# Altium integrated library TI Power Management Linear Regulator Dual Channel LDO.IntLib: 299 symbols (part 1 of 15)
Pins are listed as number, name and electrical type; pins without a type are passive.

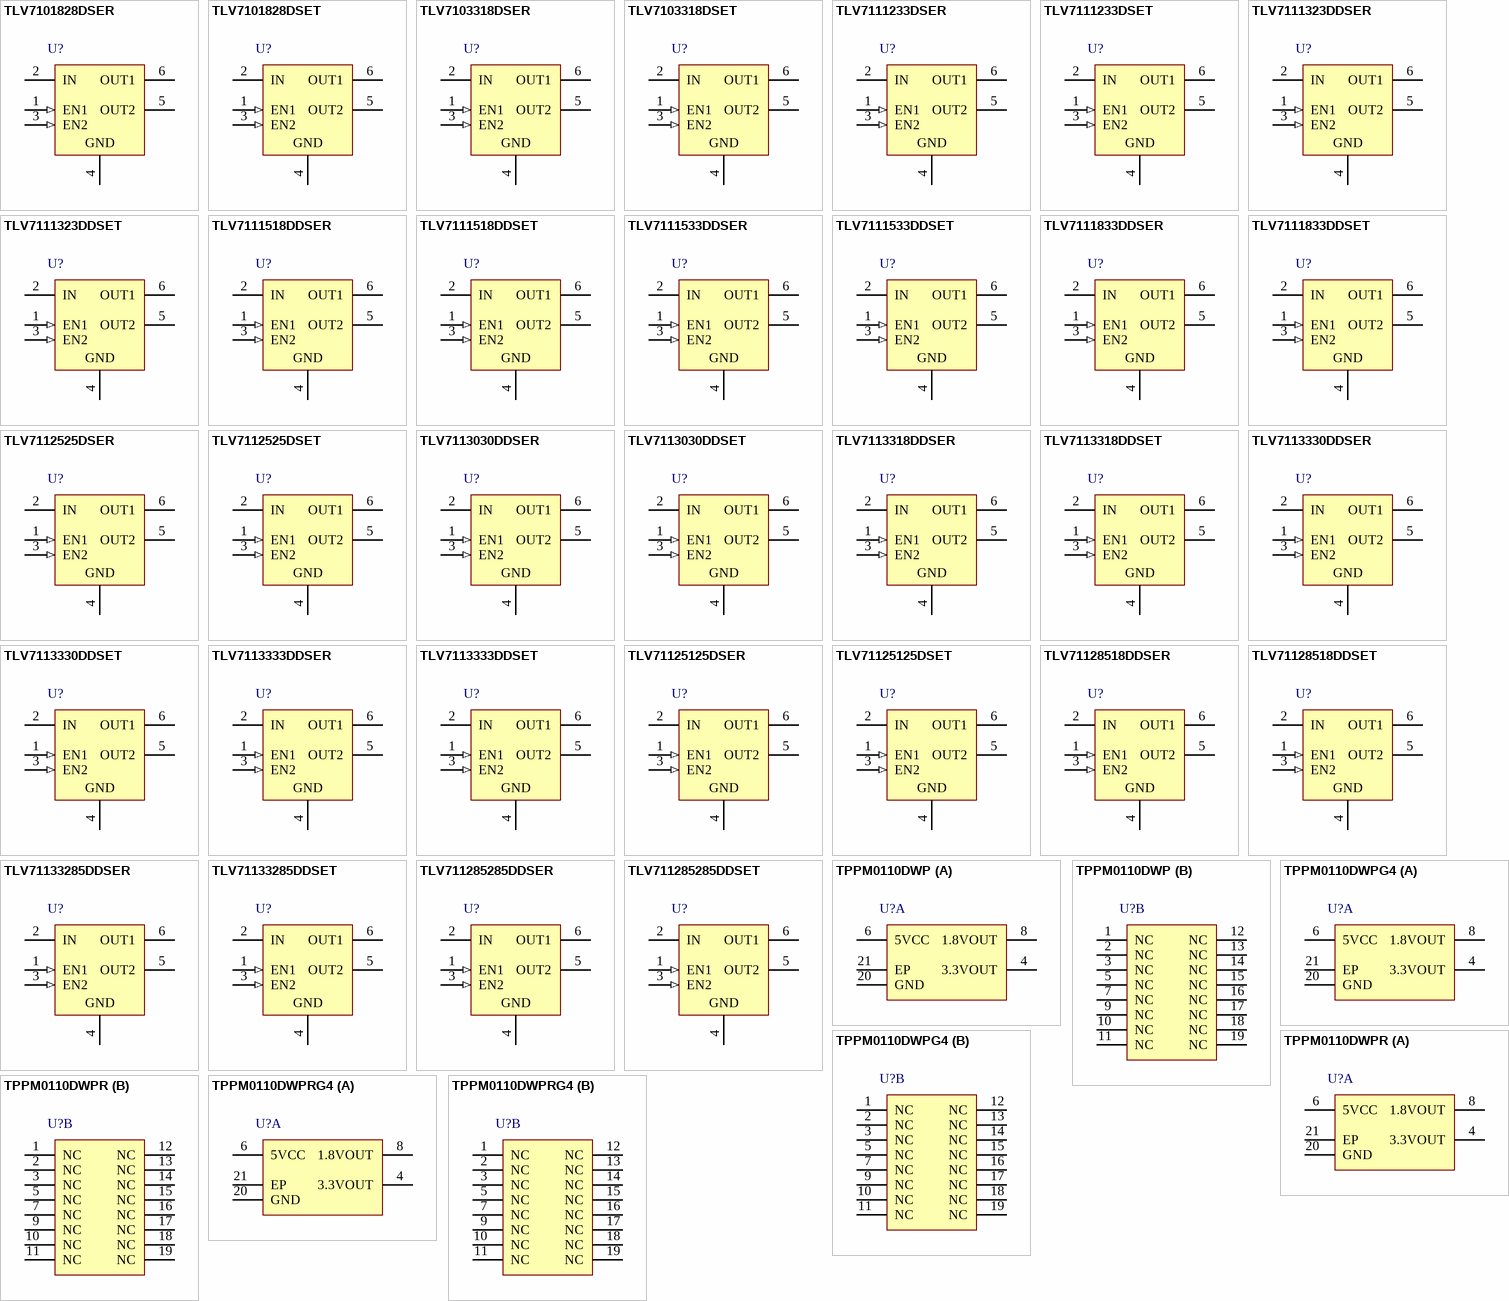
[diagram p0: symbols TLV7101828DSER to TPPM0110DWPRG4]

## TLV7101828DSER
designator U?
Dual Output High PSRR LDO, 200 mA, Fixed 1.8, 2.8 V Output, 2 to 5.5 V Input, 6-pin WSON (DSE), -40 to 125 degC, Green (RoHS & no Sb/Br); Manufacturer: Texas Instruments; PartNumber: TLV7101828DSER; Iout(Max)(A): 0.2; Iq(Typ)(mA): 0.03; SubFamily: Dual Channel LDO; Vdo(Typ)(mV): 175; Vin(Max)(V): 5.5; Vin(Min)(V): 2; Vout(Max)(V): 4.8; Vout(Min)(V): 0.7; DatasheetVersion: SBVS142A; PackageVersion: 4207810/A; PackageReference: DSE6; PackageDescription: 6-Pin Plastic Small Outline, Body 1.5 x 1.5 mm, Pitch 0.5 mm; Supplier 1: Digi-Key; Supplier Part Number 1: 296-27778-2-ND; Supplier 2: Digi-Key; Supplier Part Number 2: 296-27778-1-ND; Supplier 3: Digi-Key; Supplier Part Number 3: 296-27778-6-ND; Supplier 4: Newark; Supplier Part Number 4: 01T0734; Supplier 5: Mouser; Supplier Part Number 5: 595-TLV7101828DSER; Eco-Plan: Green (RoHS & no Sb/Br); Fixed Output Options(V): 1.8, 2.8; Mounting Technology: Surface Mount; ComponentLink1Description: Manufacturer URL; ComponentLink1URL: http://www.ti.com/; ComponentLink2Description: Datasheet; ComponentLink2URL: http://www.ti.com/general/docs/lit/getliterature.tsp?genericPartNumber=TLV7101828&fileType=pdf; ComponentLink3Description: Package Specification; ComponentLink3URL: http://www.ti.com/litv/pdf/mpds287
footprint TI-DSE6_V (SON, 6-Leads, Body 1.5x1.5mm, Pitch 0.5mm)
pins: 1 EN1 (in) "Enable pin for regulator 1.Driving EN1 over 0.9V turns on regulator 1. Driving EN below0.4V puts regulator 1 into shutdown mode.", 2 IN (power) "Input pin. A small capacitor is needed from this pin to ground to assure stability. See Input and Output Capacitor Requirements in the Application Information section for more details.", 3 EN2 (in) "Enable pin for regulator 2.Driving EN2 over 0.9V turns on regulator 2. Driving EN2 below 0.4V puts regulator 2 into shutdown mode.", 4 GND (power) "Ground pin", 5 OUT2 (power) "Regulated output voltage pin. A small 1mF ceramic capacitor is needed from this pin to ground to assure stability. See Input and Output Capacitor Requirements in the Application Information section for more details.", 6 OUT1 (power) "Regulated output voltage pin. A small 1mF ceramic capacitor is needed from this pin to ground to assure stability. See Input and Output Capacitor Requirements in the Application Information section for more details."

## TLV7101828DSET
designator U?
Dual Output High PSRR LDO, 200 mA, Fixed 1.8, 2.8 V Output, 2 to 5.5 V Input, 6-pin WSON (DSE), -40 to 125 degC, Green (RoHS & no Sb/Br); Manufacturer: Texas Instruments; PartNumber: TLV7101828DSET; Iout(Max)(A): 0.2; Iq(Typ)(mA): 0.03; SubFamily: Dual Channel LDO; Vdo(Typ)(mV): 175; Vin(Max)(V): 5.5; Vin(Min)(V): 2; Vout(Max)(V): 4.8; Vout(Min)(V): 0.7; DatasheetVersion: SBVS142A; PackageVersion: 4207810/A; PackageReference: DSE6; PackageDescription: 6-Pin Plastic Small Outline, Body 1.5 x 1.5 mm, Pitch 0.5 mm; Supplier 1: Digi-Key; Supplier Part Number 1: TLV7101828DSET-ND; Supplier 2: Newark; Supplier Part Number 2: 01T0735; Supplier 3: Mouser; Supplier Part Number 3: 595-TLV7101828DSET; Eco-Plan: Green (RoHS & no Sb/Br); Fixed Output Options(V): 1.8, 2.8; Mounting Technology: Surface Mount; ComponentLink1Description: Manufacturer URL; ComponentLink1URL: http://www.ti.com/; ComponentLink2Description: Datasheet; ComponentLink2URL: http://www.ti.com/general/docs/lit/getliterature.tsp?genericPartNumber=TLV7101828&fileType=pdf; ComponentLink3Description: Package Specification; ComponentLink3URL: http://www.ti.com/litv/pdf/mpds287
footprint TI-DSE6_V (SON, 6-Leads, Body 1.5x1.5mm, Pitch 0.5mm)
pins: 1 EN1 (in) "Enable pin for regulator 1.Driving EN1 over 0.9V turns on regulator 1. Driving EN below0.4V puts regulator 1 into shutdown mode.", 2 IN (power) "Input pin. A small capacitor is needed from this pin to ground to assure stability. See Input and Output Capacitor Requirements in the Application Information section for more details.", 3 EN2 (in) "Enable pin for regulator 2.Driving EN2 over 0.9V turns on regulator 2. Driving EN2 below 0.4V puts regulator 2 into shutdown mode.", 4 GND (power) "Ground pin", 5 OUT2 (power) "Regulated output voltage pin. A small 1mF ceramic capacitor is needed from this pin to ground to assure stability. See Input and Output Capacitor Requirements in the Application Information section for more details.", 6 OUT1 (power) "Regulated output voltage pin. A small 1mF ceramic capacitor is needed from this pin to ground to assure stability. See Input and Output Capacitor Requirements in the Application Information section for more details."

## TLV7103318DSER
designator U?
Dual Output High PSRR LDO, 200 mA, Fixed 3.3, 1.8 V Output, 2 to 5.5 V Input, 6-pin WSON (DSE), -40 to 125 degC, Green (RoHS & no Sb/Br); Manufacturer: Texas Instruments; PartNumber: TLV7103318DSER; Iout(Max)(A): 0.2; Iq(Typ)(mA): 0.03; SubFamily: Dual Channel LDO; Vdo(Typ)(mV): 175; Vin(Max)(V): 5.5; Vin(Min)(V): 2; Vout(Max)(V): 4.8; Vout(Min)(V): 0.7; DatasheetVersion: SBVS142A; PackageVersion: 4207810/A; PackageReference: DSE6; PackageDescription: 6-Pin Plastic Small Outline, Body 1.5 x 1.5 mm, Pitch 0.5 mm; Supplier 1: Digi-Key; Supplier Part Number 1: TLV7103318DSER-ND; Supplier 2: Mouser; Supplier Part Number 2: 595-TLV7103318DSER; Eco-Plan: Green (RoHS & no Sb/Br); Fixed Output Options(V): 3.3, 1.8; Mounting Technology: Surface Mount; ComponentLink1Description: Manufacturer URL; ComponentLink1URL: http://www.ti.com/; ComponentLink2Description: Datasheet; ComponentLink2URL: http://www.ti.com/general/docs/lit/getliterature.tsp?genericPartNumber=TLV7103318&fileType=pdf; ComponentLink3Description: Package Specification; ComponentLink3URL: http://www.ti.com/litv/pdf/mpds287
footprint TI-DSE6_V (SON, 6-Leads, Body 1.5x1.5mm, Pitch 0.5mm)
pins: 1 EN1 (in) "Enable pin for regulator 1.Driving EN1 over 0.9V turns on regulator 1. Driving EN below0.4V puts regulator 1 into shutdown mode.", 2 IN (power) "Input pin. A small capacitor is needed from this pin to ground to assure stability. See Input and Output Capacitor Requirements in the Application Information section for more details.", 3 EN2 (in) "Enable pin for regulator 2.Driving EN2 over 0.9V turns on regulator 2. Driving EN2 below 0.4V puts regulator 2 into shutdown mode.", 4 GND (power) "Ground pin", 5 OUT2 (power) "Regulated output voltage pin. A small 1mF ceramic capacitor is needed from this pin to ground to assure stability. See Input and Output Capacitor Requirements in the Application Information section for more details.", 6 OUT1 (power) "Regulated output voltage pin. A small 1mF ceramic capacitor is needed from this pin to ground to assure stability. See Input and Output Capacitor Requirements in the Application Information section for more details."

## TLV7103318DSET
designator U?
Dual Output High PSRR LDO, 200 mA, Fixed 3.3, 1.8 V Output, 2 to 5.5 V Input, 6-pin WSON (DSE), -40 to 125 degC, Green (RoHS & no Sb/Br); Manufacturer: Texas Instruments; PartNumber: TLV7103318DSET; Iout(Max)(A): 0.2; Iq(Typ)(mA): 0.03; SubFamily: Dual Channel LDO; Vdo(Typ)(mV): 175; Vin(Max)(V): 5.5; Vin(Min)(V): 2; Vout(Max)(V): 4.8; Vout(Min)(V): 0.7; DatasheetVersion: SBVS142A; PackageVersion: 4207810/A; PackageReference: DSE6; PackageDescription: 6-Pin Plastic Small Outline, Body 1.5 x 1.5 mm, Pitch 0.5 mm; Supplier 1: Digi-Key; Supplier Part Number 1: 296-29058-2-ND; Supplier 2: Digi-Key; Supplier Part Number 2: 296-29058-1-ND; Supplier 3: Digi-Key; Supplier Part Number 3: 296-29058-6-ND; Supplier 4: Mouser; Supplier Part Number 4: 595-TLV7103318DSET; Eco-Plan: Green (RoHS & no Sb/Br); Fixed Output Options(V): 3.3, 1.8; Mounting Technology: Surface Mount; ComponentLink1Description: Manufacturer URL; ComponentLink1URL: http://www.ti.com/; ComponentLink2Description: Datasheet; ComponentLink2URL: http://www.ti.com/general/docs/lit/getliterature.tsp?genericPartNumber=TLV7103318&fileType=pdf; ComponentLink3Description: Package Specification; ComponentLink3URL: http://www.ti.com/litv/pdf/mpds287
footprint TI-DSE6_V (SON, 6-Leads, Body 1.5x1.5mm, Pitch 0.5mm)
pins: 1 EN1 (in) "Enable pin for regulator 1.Driving EN1 over 0.9V turns on regulator 1. Driving EN below0.4V puts regulator 1 into shutdown mode.", 2 IN (power) "Input pin. A small capacitor is needed from this pin to ground to assure stability. See Input and Output Capacitor Requirements in the Application Information section for more details.", 3 EN2 (in) "Enable pin for regulator 2.Driving EN2 over 0.9V turns on regulator 2. Driving EN2 below 0.4V puts regulator 2 into shutdown mode.", 4 GND (power) "Ground pin", 5 OUT2 (power) "Regulated output voltage pin. A small 1mF ceramic capacitor is needed from this pin to ground to assure stability. See Input and Output Capacitor Requirements in the Application Information section for more details.", 6 OUT1 (power) "Regulated output voltage pin. A small 1mF ceramic capacitor is needed from this pin to ground to assure stability. See Input and Output Capacitor Requirements in the Application Information section for more details."

## TLV7111233DSER
designator U?
Dual Output High PSRR LDO, 200 mA, Fixed 1.2, 3.3 V Output, 2 to 5.5 V Input, 6-pin WSON (DSE), -40 to 125 degC, Green (RoHS & no Sb/Br); Manufacturer: Texas Instruments; PartNumber: TLV7111233DSER; Iout(Max)(A): 0.2; Iq(Typ)(mA): 0.03; SubFamily: Dual Channel LDO; Vdo(Typ)(mV): 175; Vin(Max)(V): 5.5; Vin(Min)(V): 2; DatasheetVersion: SBVS142A; PackageVersion: 4207810/A; PackageReference: DSE6; PackageDescription: 6-Pin Plastic Small Outline, Body 1.5 x 1.5 mm, Pitch 0.5 mm; Supplier 1: Digi-Key; Supplier Part Number 1: 296-28453-2-ND; Supplier 2: Digi-Key; Supplier Part Number 2: 296-28453-1-ND; Supplier 3: Digi-Key; Supplier Part Number 3: 296-28453-6-ND; Supplier 4: Mouser; Supplier Part Number 4: 595-TLV7111233DSER; Eco-Plan: Green (RoHS & no Sb/Br); Fixed Output Options(V): 1.2, 3.3; Mounting Technology: Surface Mount; ComponentLink1Description: Manufacturer URL; ComponentLink1URL: http://www.ti.com/; ComponentLink2Description: Datasheet; ComponentLink2URL: http://www.ti.com/general/docs/lit/getliterature.tsp?genericPartNumber=TLV7111233&fileType=pdf; ComponentLink3Description: Package Specification; ComponentLink3URL: http://www.ti.com/litv/pdf/mpds287
footprint TI-DSE6_V (SON, 6-Leads, Body 1.5x1.5mm, Pitch 0.5mm)
pins: 1 EN1 (in) "Enable pin for regulator 1.Driving EN1 over 0.9V turns on regulator 1. Driving EN below0.4V puts regulator 1 into shutdown mode.", 2 IN (power) "Input pin. A small capacitor is needed from this pin to ground to assure stability. See Input and Output Capacitor Requirements in the Application Information section for more details.", 3 EN2 (in) "Enable pin for regulator 2.Driving EN2 over 0.9V turns on regulator 2. Driving EN2 below 0.4V puts regulator 2 into shutdown mode.", 4 GND (power) "Ground pin", 5 OUT2 (power) "Regulated output voltage pin. A small 1mF ceramic capacitor is needed from this pin to ground to assure stability. See Input and Output Capacitor Requirements in the Application Information section for more details.", 6 OUT1 (power) "Regulated output voltage pin. A small 1mF ceramic capacitor is needed from this pin to ground to assure stability. See Input and Output Capacitor Requirements in the Application Information section for more details."

## TLV7111233DSET
designator U?
Dual Output High PSRR LDO, 200 mA, Fixed 1.2, 3.3 V Output, 2 to 5.5 V Input, 6-pin WSON (DSE), -40 to 125 degC, Green (RoHS & no Sb/Br); Manufacturer: Texas Instruments; PartNumber: TLV7111233DSET; Iout(Max)(A): 0.2; Iq(Typ)(mA): 0.03; SubFamily: Dual Channel LDO; Vdo(Typ)(mV): 175; Vin(Max)(V): 5.5; Vin(Min)(V): 2; DatasheetVersion: SBVS142A; PackageVersion: 4207810/A; PackageReference: DSE6; PackageDescription: 6-Pin Plastic Small Outline, Body 1.5 x 1.5 mm, Pitch 0.5 mm; Supplier 1: Digi-Key; Supplier Part Number 1: TLV7111233DSET-ND; Supplier 2: Mouser; Supplier Part Number 2: 595-TLV7111233DSET; Eco-Plan: Green (RoHS & no Sb/Br); Fixed Output Options(V): 1.2, 3.3; Mounting Technology: Surface Mount; ComponentLink1Description: Manufacturer URL; ComponentLink1URL: http://www.ti.com/; ComponentLink2Description: Datasheet; ComponentLink2URL: http://www.ti.com/general/docs/lit/getliterature.tsp?genericPartNumber=TLV7111233&fileType=pdf; ComponentLink3Description: Package Specification; ComponentLink3URL: http://www.ti.com/litv/pdf/mpds287
footprint TI-DSE6_V (SON, 6-Leads, Body 1.5x1.5mm, Pitch 0.5mm)
pins: 1 EN1 (in) "Enable pin for regulator 1.Driving EN1 over 0.9V turns on regulator 1. Driving EN below0.4V puts regulator 1 into shutdown mode.", 2 IN (power) "Input pin. A small capacitor is needed from this pin to ground to assure stability. See Input and Output Capacitor Requirements in the Application Information section for more details.", 3 EN2 (in) "Enable pin for regulator 2.Driving EN2 over 0.9V turns on regulator 2. Driving EN2 below 0.4V puts regulator 2 into shutdown mode.", 4 GND (power) "Ground pin", 5 OUT2 (power) "Regulated output voltage pin. A small 1mF ceramic capacitor is needed from this pin to ground to assure stability. See Input and Output Capacitor Requirements in the Application Information section for more details.", 6 OUT1 (power) "Regulated output voltage pin. A small 1mF ceramic capacitor is needed from this pin to ground to assure stability. See Input and Output Capacitor Requirements in the Application Information section for more details."

## TLV7111323DDSER
designator U?
Dual Output High PSRR LDO, 200 mA, Fixed 1.3, 2.3 V Output, 2 to 5.5 V Input, 6-pin WSON (DSE), -40 to 125 degC, Green (RoHS & no Sb/Br); Manufacturer: Texas Instruments; PartNumber: TLV7111323DDSER; Iout(Max)(A): 0.2; Iq(Typ)(mA): 0.03; SubFamily: Dual Channel LDO; Vdo(Typ)(mV): 150; Vin(Max)(V): 5.5; Vin(Min)(V): 2; DatasheetVersion: SBVS142A; PackageVersion: 4207810/A; PackageReference: DSE6; PackageDescription: 6-Pin Plastic Small Outline, Body 1.5 x 1.5 mm, Pitch 0.5 mm; Supplier 1: Digi-Key; Supplier Part Number 1: 296-30047-2-ND; Supplier 2: Digi-Key; Supplier Part Number 2: 296-30047-1-ND; Supplier 3: Digi-Key; Supplier Part Number 3: 296-30047-6-ND; Supplier 4: Mouser; Supplier Part Number 4: 595-TLV7111323DDSER; Eco-Plan: Green (RoHS & no Sb/Br); Fixed Output Options(V): 1.3, 2.3; Mounting Technology: Surface Mount; ComponentLink1Description: Manufacturer URL; ComponentLink1URL: http://www.ti.com/; ComponentLink2Description: Datasheet; ComponentLink2URL: http://www.ti.com/general/docs/lit/getliterature.tsp?genericPartNumber=TLV7111323D&fileType=pdf; ComponentLink3Description: Package Specification; ComponentLink3URL: http://www.ti.com/litv/pdf/mpds287
footprint TI-DSE6_V (SON, 6-Leads, Body 1.5x1.5mm, Pitch 0.5mm)
pins: 1 EN1 (in) "Enable pin for regulator 1.Driving EN1 over 0.9V turns on regulator 1. Driving EN below0.4V puts regulator 1 into shutdown mode.", 2 IN (power) "Input pin. A small capacitor is needed from this pin to ground to assure stability. See Input and Output Capacitor Requirements in the Application Information section for more details.", 3 EN2 (in) "Enable pin for regulator 2.Driving EN2 over 0.9V turns on regulator 2. Driving EN2 below 0.4V puts regulator 2 into shutdown mode.", 4 GND (power) "Ground pin", 5 OUT2 (power) "Regulated output voltage pin. A small 1mF ceramic capacitor is needed from this pin to ground to assure stability. See Input and Output Capacitor Requirements in the Application Information section for more details.", 6 OUT1 (power) "Regulated output voltage pin. A small 1mF ceramic capacitor is needed from this pin to ground to assure stability. See Input and Output Capacitor Requirements in the Application Information section for more details."

## TLV7111323DDSET
designator U?
Dual Output High PSRR LDO, 200 mA, Fixed 1.3, 2.3 V Output, 2 to 5.5 V Input, 6-pin WSON (DSE), -40 to 125 degC, Green (RoHS & no Sb/Br); Manufacturer: Texas Instruments; PartNumber: TLV7111323DDSET; Iout(Max)(A): 0.2; Iq(Typ)(mA): 0.03; SubFamily: Dual Channel LDO; Vdo(Typ)(mV): 150; Vin(Max)(V): 5.5; Vin(Min)(V): 2; DatasheetVersion: SBVS142A; PackageVersion: 4207810/A; PackageReference: DSE6; PackageDescription: 6-Pin Plastic Small Outline, Body 1.5 x 1.5 mm, Pitch 0.5 mm; Supplier 1: Digi-Key; Supplier Part Number 1: 296-30173-2-ND; Supplier 2: Digi-Key; Supplier Part Number 2: 296-30173-1-ND; Supplier 3: Digi-Key; Supplier Part Number 3: 296-30173-6-ND; Supplier 4: Farnell; Supplier Part Number 4: 2078540; Supplier 5: Mouser; Supplier Part Number 5: 595-TLV7111323DDSET; Eco-Plan: Green (RoHS & no Sb/Br); Fixed Output Options(V): 1.3, 2.3; Mounting Technology: Surface Mount; ComponentLink1Description: Manufacturer URL; ComponentLink1URL: http://www.ti.com/; ComponentLink2Description: Datasheet; ComponentLink2URL: http://www.ti.com/general/docs/lit/getliterature.tsp?genericPartNumber=TLV7111323D&fileType=pdf; ComponentLink3Description: Package Specification; ComponentLink3URL: http://www.ti.com/litv/pdf/mpds287
footprint TI-DSE6_V (SON, 6-Leads, Body 1.5x1.5mm, Pitch 0.5mm)
pins: 1 EN1 (in) "Enable pin for regulator 1.Driving EN1 over 0.9V turns on regulator 1. Driving EN below0.4V puts regulator 1 into shutdown mode.", 2 IN (power) "Input pin. A small capacitor is needed from this pin to ground to assure stability. See Input and Output Capacitor Requirements in the Application Information section for more details.", 3 EN2 (in) "Enable pin for regulator 2.Driving EN2 over 0.9V turns on regulator 2. Driving EN2 below 0.4V puts regulator 2 into shutdown mode.", 4 GND (power) "Ground pin", 5 OUT2 (power) "Regulated output voltage pin. A small 1mF ceramic capacitor is needed from this pin to ground to assure stability. See Input and Output Capacitor Requirements in the Application Information section for more details.", 6 OUT1 (power) "Regulated output voltage pin. A small 1mF ceramic capacitor is needed from this pin to ground to assure stability. See Input and Output Capacitor Requirements in the Application Information section for more details."

## TLV7111518DDSER
designator U?
Dual Output High PSRR LDO, 200 mA, Fixed 1.5, 1.8 V Output, 2 to 5.5 V Input, 6-pin WSON (DSE), -40 to 125 degC, Green (RoHS & no Sb/Br); Manufacturer: Texas Instruments; PartNumber: TLV7111518DDSER; Iout(Max)(A): 0.2; Iq(Typ)(mA): 0.03; SubFamily: Dual Channel LDO; Vdo(Typ)(mV): 150; Vin(Max)(V): 5.5; Vin(Min)(V): 2; DatasheetVersion: SBVS142A; PackageVersion: 4207810/A; PackageReference: DSE6; PackageDescription: 6-Pin Plastic Small Outline, Body 1.5 x 1.5 mm, Pitch 0.5 mm; Supplier 1: Digi-Key; Supplier Part Number 1: 296-29500-2-ND; Supplier 2: Digi-Key; Supplier Part Number 2: 296-29500-1-ND; Supplier 3: Digi-Key; Supplier Part Number 3: 296-29500-6-ND; Supplier 4: Mouser; Supplier Part Number 4: 595-TLV7111518DDSER; Eco-Plan: Green (RoHS & no Sb/Br); Fixed Output Options(V): 1.5, 1.8; Mounting Technology: Surface Mount; ComponentLink1Description: Manufacturer URL; ComponentLink1URL: http://www.ti.com/; ComponentLink2Description: Datasheet; ComponentLink2URL: http://www.ti.com/general/docs/lit/getliterature.tsp?genericPartNumber=TLV7111518D&fileType=pdf; ComponentLink3Description: Package Specification; ComponentLink3URL: http://www.ti.com/litv/pdf/mpds287
footprint TI-DSE6_V (SON, 6-Leads, Body 1.5x1.5mm, Pitch 0.5mm)
pins: 1 EN1 (in) "Enable pin for regulator 1.Driving EN1 over 0.9V turns on regulator 1. Driving EN below0.4V puts regulator 1 into shutdown mode.", 2 IN (power) "Input pin. A small capacitor is needed from this pin to ground to assure stability. See Input and Output Capacitor Requirements in the Application Information section for more details.", 3 EN2 (in) "Enable pin for regulator 2.Driving EN2 over 0.9V turns on regulator 2. Driving EN2 below 0.4V puts regulator 2 into shutdown mode.", 4 GND (power) "Ground pin", 5 OUT2 (power) "Regulated output voltage pin. A small 1mF ceramic capacitor is needed from this pin to ground to assure stability. See Input and Output Capacitor Requirements in the Application Information section for more details.", 6 OUT1 (power) "Regulated output voltage pin. A small 1mF ceramic capacitor is needed from this pin to ground to assure stability. See Input and Output Capacitor Requirements in the Application Information section for more details."

## TLV7111518DDSET
designator U?
Dual Output High PSRR LDO, 200 mA, Fixed 1.5, 1.8 V Output, 2 to 5.5 V Input, 6-pin WSON (DSE), -40 to 125 degC, Green (RoHS & no Sb/Br); Manufacturer: Texas Instruments; PartNumber: TLV7111518DDSET; Iout(Max)(A): 0.2; Iq(Typ)(mA): 0.03; SubFamily: Dual Channel LDO; Vdo(Typ)(mV): 150; Vin(Max)(V): 5.5; Vin(Min)(V): 2; DatasheetVersion: SBVS142A; PackageVersion: 4207810/A; PackageReference: DSE6; PackageDescription: 6-Pin Plastic Small Outline, Body 1.5 x 1.5 mm, Pitch 0.5 mm; Supplier 1: Digi-Key; Supplier Part Number 1: 296-29755-2-ND; Supplier 2: Digi-Key; Supplier Part Number 2: 296-29755-1-ND; Supplier 3: Digi-Key; Supplier Part Number 3: 296-29755-6-ND; Supplier 4: Farnell; Supplier Part Number 4: 2064245RL; Supplier 5: Farnell; Supplier Part Number 5: 2064245; Supplier 6: Newark; Supplier Part Number 6: 64T4166; Supplier 7: Mouser; Supplier Part Number 7: 595-TLV7111518DDSET; Eco-Plan: Green (RoHS & no Sb/Br); Fixed Output Options(V): 1.5, 1.8; Mounting Technology: Surface Mount; ComponentLink1Description: Manufacturer URL; ComponentLink1URL: http://www.ti.com/; ComponentLink2Description: Datasheet; ComponentLink2URL: http://www.ti.com/general/docs/lit/getliterature.tsp?genericPartNumber=TLV7111518D&fileType=pdf; ComponentLink3Description: Package Specification; ComponentLink3URL: http://www.ti.com/litv/pdf/mpds287
footprint TI-DSE6_V (SON, 6-Leads, Body 1.5x1.5mm, Pitch 0.5mm)
pins: 1 EN1 (in) "Enable pin for regulator 1.Driving EN1 over 0.9V turns on regulator 1. Driving EN below0.4V puts regulator 1 into shutdown mode.", 2 IN (power) "Input pin. A small capacitor is needed from this pin to ground to assure stability. See Input and Output Capacitor Requirements in the Application Information section for more details.", 3 EN2 (in) "Enable pin for regulator 2.Driving EN2 over 0.9V turns on regulator 2. Driving EN2 below 0.4V puts regulator 2 into shutdown mode.", 4 GND (power) "Ground pin", 5 OUT2 (power) "Regulated output voltage pin. A small 1mF ceramic capacitor is needed from this pin to ground to assure stability. See Input and Output Capacitor Requirements in the Application Information section for more details.", 6 OUT1 (power) "Regulated output voltage pin. A small 1mF ceramic capacitor is needed from this pin to ground to assure stability. See Input and Output Capacitor Requirements in the Application Information section for more details."

## TLV7111533DDSER
designator U?
Dual Output High PSRR LDO, 200 mA, Fixed 1.5, 3.3 V Output, 2 to 5.5 V Input, 6-pin WSON (DSE), -40 to 125 degC, Green (RoHS & no Sb/Br); Manufacturer: Texas Instruments; PartNumber: TLV7111533DDSER; Iout(Max)(A): 0.2; Iq(Typ)(mA): 0.03; SubFamily: Dual Channel LDO; Vdo(Typ)(mV): 150; Vin(Max)(V): 5.5; Vin(Min)(V): 2; DatasheetVersion: SBVS142A; PackageVersion: 4207810/A; PackageReference: DSE6; PackageDescription: 6-Pin Plastic Small Outline, Body 1.5 x 1.5 mm, Pitch 0.5 mm; Supplier 1: Digi-Key; Supplier Part Number 1: TLV7111533DDSER-ND; Supplier 2: Newark; Supplier Part Number 2: 92T2333; Supplier 3: Mouser; Supplier Part Number 3: 595-TLV7111533DDSER; Eco-Plan: Green (RoHS & no Sb/Br); Fixed Output Options(V): 1.5, 3.3; Mounting Technology: Surface Mount; ComponentLink1Description: Manufacturer URL; ComponentLink1URL: http://www.ti.com/; ComponentLink2Description: Datasheet; ComponentLink2URL: http://www.ti.com/general/docs/lit/getliterature.tsp?genericPartNumber=TLV7111533D&fileType=pdf; ComponentLink3Description: Package Specification; ComponentLink3URL: http://www.ti.com/litv/pdf/mpds287
footprint TI-DSE6_V (SON, 6-Leads, Body 1.5x1.5mm, Pitch 0.5mm)
pins: 1 EN1 (in) "Enable pin for regulator 1.Driving EN1 over 0.9V turns on regulator 1. Driving EN below0.4V puts regulator 1 into shutdown mode.", 2 IN (power) "Input pin. A small capacitor is needed from this pin to ground to assure stability. See Input and Output Capacitor Requirements in the Application Information section for more details.", 3 EN2 (in) "Enable pin for regulator 2.Driving EN2 over 0.9V turns on regulator 2. Driving EN2 below 0.4V puts regulator 2 into shutdown mode.", 4 GND (power) "Ground pin", 5 OUT2 (power) "Regulated output voltage pin. A small 1mF ceramic capacitor is needed from this pin to ground to assure stability. See Input and Output Capacitor Requirements in the Application Information section for more details.", 6 OUT1 (power) "Regulated output voltage pin. A small 1mF ceramic capacitor is needed from this pin to ground to assure stability. See Input and Output Capacitor Requirements in the Application Information section for more details."

## TLV7111533DDSET
designator U?
Dual Output High PSRR LDO, 200 mA, Fixed 1.5, 3.3 V Output, 2 to 5.5 V Input, 6-pin WSON (DSE), -40 to 125 degC, Green (RoHS & no Sb/Br); Manufacturer: Texas Instruments; PartNumber: TLV7111533DDSET; Iout(Max)(A): 0.2; Iq(Typ)(mA): 0.03; SubFamily: Dual Channel LDO; Vdo(Typ)(mV): 150; Vin(Max)(V): 5.5; Vin(Min)(V): 2; DatasheetVersion: SBVS142A; PackageVersion: 4207810/A; PackageReference: DSE6; PackageDescription: 6-Pin Plastic Small Outline, Body 1.5 x 1.5 mm, Pitch 0.5 mm; Supplier 1: Digi-Key; Supplier Part Number 1: 296-30351-2-ND; Supplier 2: Digi-Key; Supplier Part Number 2: 296-30351-1-ND; Supplier 3: Digi-Key; Supplier Part Number 3: 296-30351-6-ND; Supplier 4: Farnell; Supplier Part Number 4: 2099912; Supplier 5: Newark; Supplier Part Number 5: 05W5836; Supplier 6: Newark; Supplier Part Number 6: 92T2334; Supplier 7: Mouser; Supplier Part Number 7: 595-TLV7111533DDSET; Eco-Plan: Green (RoHS & no Sb/Br); Fixed Output Options(V): 1.5, 3.3; Mounting Technology: Surface Mount; ComponentLink1Description: Manufacturer URL; ComponentLink1URL: http://www.ti.com/; ComponentLink2Description: Datasheet; ComponentLink2URL: http://www.ti.com/general/docs/lit/getliterature.tsp?genericPartNumber=TLV7111533D&fileType=pdf; ComponentLink3Description: Package Specification; ComponentLink3URL: http://www.ti.com/litv/pdf/mpds287
footprint TI-DSE6_V (SON, 6-Leads, Body 1.5x1.5mm, Pitch 0.5mm)
pins: 1 EN1 (in) "Enable pin for regulator 1.Driving EN1 over 0.9V turns on regulator 1. Driving EN below0.4V puts regulator 1 into shutdown mode.", 2 IN (power) "Input pin. A small capacitor is needed from this pin to ground to assure stability. See Input and Output Capacitor Requirements in the Application Information section for more details.", 3 EN2 (in) "Enable pin for regulator 2.Driving EN2 over 0.9V turns on regulator 2. Driving EN2 below 0.4V puts regulator 2 into shutdown mode.", 4 GND (power) "Ground pin", 5 OUT2 (power) "Regulated output voltage pin. A small 1mF ceramic capacitor is needed from this pin to ground to assure stability. See Input and Output Capacitor Requirements in the Application Information section for more details.", 6 OUT1 (power) "Regulated output voltage pin. A small 1mF ceramic capacitor is needed from this pin to ground to assure stability. See Input and Output Capacitor Requirements in the Application Information section for more details."

## TLV7111833DDSER
designator U?
Dual Output High PSRR LDO, 200 mA, Fixed 1.8, 3.3 V Output, 2 to 5.5 V Input, 6-pin WSON (DSE), -40 to 125 degC, Green (RoHS & no Sb/Br); Manufacturer: Texas Instruments; PartNumber: TLV7111833DDSER; Iout(Max)(A): 0.2; Iq(Typ)(mA): 0.03; SubFamily: Dual Channel LDO; Vdo(Typ)(mV): 150; Vin(Max)(V): 5.5; Vin(Min)(V): 2; DatasheetVersion: SBVS142A; PackageVersion: 4207810/A; PackageReference: DSE6; PackageDescription: 6-Pin Plastic Small Outline, Body 1.5 x 1.5 mm, Pitch 0.5 mm; Supplier 1: Digi-Key; Supplier Part Number 1: 296-29501-2-ND; Supplier 2: Digi-Key; Supplier Part Number 2: 296-29501-1-ND; Supplier 3: Digi-Key; Supplier Part Number 3: 296-29501-6-ND; Supplier 4: Mouser; Supplier Part Number 4: 595-TLV7111833DDSER; Eco-Plan: Green (RoHS & no Sb/Br); Fixed Output Options(V): 1.8, 3.3; Mounting Technology: Surface Mount; ComponentLink1Description: Manufacturer URL; ComponentLink1URL: http://www.ti.com/; ComponentLink2Description: Datasheet; ComponentLink2URL: http://www.ti.com/general/docs/lit/getliterature.tsp?genericPartNumber=TLV7111833D&fileType=pdf; ComponentLink3Description: Package Specification; ComponentLink3URL: http://www.ti.com/litv/pdf/mpds287
footprint TI-DSE6_V (SON, 6-Leads, Body 1.5x1.5mm, Pitch 0.5mm)
pins: 1 EN1 (in) "Enable pin for regulator 1.Driving EN1 over 0.9V turns on regulator 1. Driving EN below0.4V puts regulator 1 into shutdown mode.", 2 IN (power) "Input pin. A small capacitor is needed from this pin to ground to assure stability. See Input and Output Capacitor Requirements in the Application Information section for more details.", 3 EN2 (in) "Enable pin for regulator 2.Driving EN2 over 0.9V turns on regulator 2. Driving EN2 below 0.4V puts regulator 2 into shutdown mode.", 4 GND (power) "Ground pin", 5 OUT2 (power) "Regulated output voltage pin. A small 1mF ceramic capacitor is needed from this pin to ground to assure stability. See Input and Output Capacitor Requirements in the Application Information section for more details.", 6 OUT1 (power) "Regulated output voltage pin. A small 1mF ceramic capacitor is needed from this pin to ground to assure stability. See Input and Output Capacitor Requirements in the Application Information section for more details."

## TLV7111833DDSET
designator U?
Dual Output High PSRR LDO, 200 mA, Fixed 1.8, 3.3 V Output, 2 to 5.5 V Input, 6-pin WSON (DSE), -40 to 125 degC, Green (RoHS & no Sb/Br); Manufacturer: Texas Instruments; PartNumber: TLV7111833DDSET; Iout(Max)(A): 0.2; Iq(Typ)(mA): 0.03; SubFamily: Dual Channel LDO; Vdo(Typ)(mV): 150; Vin(Max)(V): 5.5; Vin(Min)(V): 2; DatasheetVersion: SBVS142A; PackageVersion: 4207810/A; PackageReference: DSE6; PackageDescription: 6-Pin Plastic Small Outline, Body 1.5 x 1.5 mm, Pitch 0.5 mm; Supplier 1: Digi-Key; Supplier Part Number 1: 296-29756-2-ND; Supplier 2: Digi-Key; Supplier Part Number 2: 296-29756-1-ND; Supplier 3: Digi-Key; Supplier Part Number 3: 296-29756-6-ND; Supplier 4: Farnell; Supplier Part Number 4: 2064246RL; Supplier 5: Farnell; Supplier Part Number 5: 2064246; Supplier 6: Mouser; Supplier Part Number 6: 595-TLV7111833DDSET; Eco-Plan: Green (RoHS & no Sb/Br); Fixed Output Options(V): 1.8, 3.3; Mounting Technology: Surface Mount; ComponentLink1Description: Manufacturer URL; ComponentLink1URL: http://www.ti.com/; ComponentLink2Description: Datasheet; ComponentLink2URL: http://www.ti.com/general/docs/lit/getliterature.tsp?genericPartNumber=TLV7111833D&fileType=pdf; ComponentLink3Description: Package Specification; ComponentLink3URL: http://www.ti.com/litv/pdf/mpds287
footprint TI-DSE6_V (SON, 6-Leads, Body 1.5x1.5mm, Pitch 0.5mm)
pins: 1 EN1 (in) "Enable pin for regulator 1.Driving EN1 over 0.9V turns on regulator 1. Driving EN below0.4V puts regulator 1 into shutdown mode.", 2 IN (power) "Input pin. A small capacitor is needed from this pin to ground to assure stability. See Input and Output Capacitor Requirements in the Application Information section for more details.", 3 EN2 (in) "Enable pin for regulator 2.Driving EN2 over 0.9V turns on regulator 2. Driving EN2 below 0.4V puts regulator 2 into shutdown mode.", 4 GND (power) "Ground pin", 5 OUT2 (power) "Regulated output voltage pin. A small 1mF ceramic capacitor is needed from this pin to ground to assure stability. See Input and Output Capacitor Requirements in the Application Information section for more details.", 6 OUT1 (power) "Regulated output voltage pin. A small 1mF ceramic capacitor is needed from this pin to ground to assure stability. See Input and Output Capacitor Requirements in the Application Information section for more details."

## TLV7112525DSER
designator U?
Dual Output High PSRR LDO, 200 mA, Fixed 2.5 V Output, 2 to 5.5 V Input, 6-pin WSON (DSE), -40 to 125 degC, Green (RoHS & no Sb/Br); Manufacturer: Texas Instruments; PartNumber: TLV7112525DSER; Fixed Output Options(V): 2.5; Iout(Max)(A): 0.2; Iq(Typ)(mA): 0.03; SubFamily: Dual Channel LDO; Vdo(Typ)(mV): 175; Vin(Max)(V): 5.5; Vin(Min)(V): 2; DatasheetVersion: SBVS142A; PackageVersion: 4207810/A; PackageReference: DSE6; PackageDescription: 6-Pin Plastic Small Outline, Body 1.5 x 1.5 mm, Pitch 0.5 mm; Supplier 1: Digi-Key; Supplier Part Number 1: 296-28259-2-ND; Supplier 2: Digi-Key; Supplier Part Number 2: 296-28259-1-ND; Supplier 3: Digi-Key; Supplier Part Number 3: 296-28259-6-ND; Supplier 4: Mouser; Supplier Part Number 4: 595-TLV7112525DSER; Eco-Plan: Green (RoHS & no Sb/Br); Mounting Technology: Surface Mount; ComponentLink1Description: Manufacturer URL; ComponentLink1URL: http://www.ti.com/; ComponentLink2Description: Datasheet; ComponentLink2URL: http://www.ti.com/general/docs/lit/getliterature.tsp?genericPartNumber=TLV7112525&fileType=pdf; ComponentLink3Description: Package Specification; ComponentLink3URL: http://www.ti.com/litv/pdf/mpds287
footprint TI-DSE6_V (SON, 6-Leads, Body 1.5x1.5mm, Pitch 0.5mm)
pins: 1 EN1 (in) "Enable pin for regulator 1.Driving EN1 over 0.9V turns on regulator 1. Driving EN below0.4V puts regulator 1 into shutdown mode.", 2 IN (power) "Input pin. A small capacitor is needed from this pin to ground to assure stability. See Input and Output Capacitor Requirements in the Application Information section for more details.", 3 EN2 (in) "Enable pin for regulator 2.Driving EN2 over 0.9V turns on regulator 2. Driving EN2 below 0.4V puts regulator 2 into shutdown mode.", 4 GND (power) "Ground pin", 5 OUT2 (power) "Regulated output voltage pin. A small 1mF ceramic capacitor is needed from this pin to ground to assure stability. See Input and Output Capacitor Requirements in the Application Information section for more details.", 6 OUT1 (power) "Regulated output voltage pin. A small 1mF ceramic capacitor is needed from this pin to ground to assure stability. See Input and Output Capacitor Requirements in the Application Information section for more details."

## TLV7112525DSET
designator U?
Dual Output High PSRR LDO, 200 mA, Fixed 2.5 V Output, 2 to 5.5 V Input, 6-pin WSON (DSE), -40 to 125 degC, Green (RoHS & no Sb/Br); Manufacturer: Texas Instruments; PartNumber: TLV7112525DSET; Fixed Output Options(V): 2.5; Iout(Max)(A): 0.2; Iq(Typ)(mA): 0.03; SubFamily: Dual Channel LDO; Vdo(Typ)(mV): 175; Vin(Max)(V): 5.5; Vin(Min)(V): 2; DatasheetVersion: SBVS142A; PackageVersion: 4207810/A; PackageReference: DSE6; PackageDescription: 6-Pin Plastic Small Outline, Body 1.5 x 1.5 mm, Pitch 0.5 mm; Supplier 1: Digi-Key; Supplier Part Number 1: TLV7112525DSET-ND; Supplier 2: Mouser; Supplier Part Number 2: 595-TLV7112525DSET; Eco-Plan: Green (RoHS & no Sb/Br); Mounting Technology: Surface Mount; ComponentLink1Description: Manufacturer URL; ComponentLink1URL: http://www.ti.com/; ComponentLink2Description: Datasheet; ComponentLink2URL: http://www.ti.com/general/docs/lit/getliterature.tsp?genericPartNumber=TLV7112525&fileType=pdf; ComponentLink3Description: Package Specification; ComponentLink3URL: http://www.ti.com/litv/pdf/mpds287
footprint TI-DSE6_V (SON, 6-Leads, Body 1.5x1.5mm, Pitch 0.5mm)
pins: 1 EN1 (in) "Enable pin for regulator 1.Driving EN1 over 0.9V turns on regulator 1. Driving EN below0.4V puts regulator 1 into shutdown mode.", 2 IN (power) "Input pin. A small capacitor is needed from this pin to ground to assure stability. See Input and Output Capacitor Requirements in the Application Information section for more details.", 3 EN2 (in) "Enable pin for regulator 2.Driving EN2 over 0.9V turns on regulator 2. Driving EN2 below 0.4V puts regulator 2 into shutdown mode.", 4 GND (power) "Ground pin", 5 OUT2 (power) "Regulated output voltage pin. A small 1mF ceramic capacitor is needed from this pin to ground to assure stability. See Input and Output Capacitor Requirements in the Application Information section for more details.", 6 OUT1 (power) "Regulated output voltage pin. A small 1mF ceramic capacitor is needed from this pin to ground to assure stability. See Input and Output Capacitor Requirements in the Application Information section for more details."

## TLV7113030DDSER
designator U?
Dual Output High PSRR LDO, 200 mA, Fixed 3 V Output, 2 to 5.5 V Input, 6-pin WSON (DSE), -40 to 125 degC, Green (RoHS & no Sb/Br); Manufacturer: Texas Instruments; PartNumber: TLV7113030DDSER; Fixed Output Options(V): 3.0; Iout(Max)(A): 0.2; Iq(Typ)(mA): 0.03; SubFamily: Dual Channel LDO; Vdo(Typ)(mV): 150; Vin(Max)(V): 5.5; Vin(Min)(V): 2; DatasheetVersion: SBVS142A; PackageVersion: 4207810/A; PackageReference: DSE6; PackageDescription: 6-Pin Plastic Small Outline, Body 1.5 x 1.5 mm, Pitch 0.5 mm; Supplier 1: Digi-Key; Supplier Part Number 1: 296-30247-2-ND; Supplier 2: Digi-Key; Supplier Part Number 2: 296-30247-1-ND; Supplier 3: Digi-Key; Supplier Part Number 3: 296-30247-6-ND; Supplier 4: Farnell; Supplier Part Number 4: 2095842; Supplier 5: Newark; Supplier Part Number 5: 91T5097; Supplier 6: Newark; Supplier Part Number 6: 87T3949; Supplier 7: Mouser; Supplier Part Number 7: 595-TLV7113030DDSER; Eco-Plan: Green (RoHS & no Sb/Br); Mounting Technology: Surface Mount; ComponentLink1Description: Manufacturer URL; ComponentLink1URL: http://www.ti.com/; ComponentLink2Description: Datasheet; ComponentLink2URL: http://www.ti.com/general/docs/lit/getliterature.tsp?genericPartNumber=TLV7113030D&fileType=pdf; ComponentLink3Description: Package Specification; ComponentLink3URL: http://www.ti.com/litv/pdf/mpds287
footprint TI-DSE6_V (SON, 6-Leads, Body 1.5x1.5mm, Pitch 0.5mm)
pins: 1 EN1 (in) "Enable pin for regulator 1.Driving EN1 over 0.9V turns on regulator 1. Driving EN below0.4V puts regulator 1 into shutdown mode.", 2 IN (power) "Input pin. A small capacitor is needed from this pin to ground to assure stability. See Input and Output Capacitor Requirements in the Application Information section for more details.", 3 EN2 (in) "Enable pin for regulator 2.Driving EN2 over 0.9V turns on regulator 2. Driving EN2 below 0.4V puts regulator 2 into shutdown mode.", 4 GND (power) "Ground pin", 5 OUT2 (power) "Regulated output voltage pin. A small 1mF ceramic capacitor is needed from this pin to ground to assure stability. See Input and Output Capacitor Requirements in the Application Information section for more details.", 6 OUT1 (power) "Regulated output voltage pin. A small 1mF ceramic capacitor is needed from this pin to ground to assure stability. See Input and Output Capacitor Requirements in the Application Information section for more details."

## TLV7113030DDSET
designator U?
Dual Output High PSRR LDO, 200 mA, Fixed 3 V Output, 2 to 5.5 V Input, 6-pin WSON (DSE), -40 to 125 degC, Green (RoHS & no Sb/Br); Manufacturer: Texas Instruments; PartNumber: TLV7113030DDSET; Fixed Output Options(V): 3.0; Iout(Max)(A): 0.2; Iq(Typ)(mA): 0.03; SubFamily: Dual Channel LDO; Vdo(Typ)(mV): 150; Vin(Max)(V): 5.5; Vin(Min)(V): 2; DatasheetVersion: SBVS142A; PackageVersion: 4207810/A; PackageReference: DSE6; PackageDescription: 6-Pin Plastic Small Outline, Body 1.5 x 1.5 mm, Pitch 0.5 mm; Supplier 1: Digi-Key; Supplier Part Number 1: 296-32421-2-ND; Supplier 2: Digi-Key; Supplier Part Number 2: 296-32421-1-ND; Supplier 3: Digi-Key; Supplier Part Number 3: 296-32421-6-ND; Supplier 4: Mouser; Supplier Part Number 4: 595-TLV7113030DDSET; Eco-Plan: Green (RoHS & no Sb/Br); Mounting Technology: Surface Mount; ComponentLink1Description: Manufacturer URL; ComponentLink1URL: http://www.ti.com/; ComponentLink2Description: Datasheet; ComponentLink2URL: http://www.ti.com/general/docs/lit/getliterature.tsp?genericPartNumber=TLV7113030D&fileType=pdf; ComponentLink3Description: Package Specification; ComponentLink3URL: http://www.ti.com/litv/pdf/mpds287
footprint TI-DSE6_V (SON, 6-Leads, Body 1.5x1.5mm, Pitch 0.5mm)
pins: 1 EN1 (in) "Enable pin for regulator 1.Driving EN1 over 0.9V turns on regulator 1. Driving EN below0.4V puts regulator 1 into shutdown mode.", 2 IN (power) "Input pin. A small capacitor is needed from this pin to ground to assure stability. See Input and Output Capacitor Requirements in the Application Information section for more details.", 3 EN2 (in) "Enable pin for regulator 2.Driving EN2 over 0.9V turns on regulator 2. Driving EN2 below 0.4V puts regulator 2 into shutdown mode.", 4 GND (power) "Ground pin", 5 OUT2 (power) "Regulated output voltage pin. A small 1mF ceramic capacitor is needed from this pin to ground to assure stability. See Input and Output Capacitor Requirements in the Application Information section for more details.", 6 OUT1 (power) "Regulated output voltage pin. A small 1mF ceramic capacitor is needed from this pin to ground to assure stability. See Input and Output Capacitor Requirements in the Application Information section for more details."

## TLV7113318DDSER
designator U?
Dual Output High PSRR LDO, 200 mA, Fixed 3.3, 1.8 V Output, 2 to 5.5 V Input, 6-pin WSON (DSE), -40 to 125 degC, Green (RoHS & no Sb/Br); Manufacturer: Texas Instruments; PartNumber: TLV7113318DDSER; Iout(Max)(A): 0.2; Iq(Typ)(mA): 0.03; SubFamily: Dual Channel LDO; Vdo(Typ)(mV): 150; Vin(Max)(V): 5.5; Vin(Min)(V): 2; DatasheetVersion: SBVS142A; PackageVersion: 4207810/A; PackageReference: DSE6; PackageDescription: 6-Pin Plastic Small Outline, Body 1.5 x 1.5 mm, Pitch 0.5 mm; Supplier 1: Digi-Key; Supplier Part Number 1: 296-29736-2-ND; Supplier 2: Digi-Key; Supplier Part Number 2: 296-29736-1-ND; Supplier 3: Digi-Key; Supplier Part Number 3: 296-29736-6-ND; Supplier 4: Newark; Supplier Part Number 4: 71T5414; Supplier 5: Mouser; Supplier Part Number 5: 595-TLV7113318DDSER; Eco-Plan: Green (RoHS & no Sb/Br); Fixed Output Options(V): 3.3, 1.8; Mounting Technology: Surface Mount; ComponentLink1Description: Manufacturer URL; ComponentLink1URL: http://www.ti.com/; ComponentLink2Description: Datasheet; ComponentLink2URL: http://www.ti.com/general/docs/lit/getliterature.tsp?genericPartNumber=TLV7113318D&fileType=pdf; ComponentLink3Description: Package Specification; ComponentLink3URL: http://www.ti.com/litv/pdf/mpds287
footprint TI-DSE6_V (SON, 6-Leads, Body 1.5x1.5mm, Pitch 0.5mm)
pins: 1 EN1 (in) "Enable pin for regulator 1.Driving EN1 over 0.9V turns on regulator 1. Driving EN below0.4V puts regulator 1 into shutdown mode.", 2 IN (power) "Input pin. A small capacitor is needed from this pin to ground to assure stability. See Input and Output Capacitor Requirements in the Application Information section for more details.", 3 EN2 (in) "Enable pin for regulator 2.Driving EN2 over 0.9V turns on regulator 2. Driving EN2 below 0.4V puts regulator 2 into shutdown mode.", 4 GND (power) "Ground pin", 5 OUT2 (power) "Regulated output voltage pin. A small 1mF ceramic capacitor is needed from this pin to ground to assure stability. See Input and Output Capacitor Requirements in the Application Information section for more details.", 6 OUT1 (power) "Regulated output voltage pin. A small 1mF ceramic capacitor is needed from this pin to ground to assure stability. See Input and Output Capacitor Requirements in the Application Information section for more details."

## TLV7113318DDSET
designator U?
Dual Output High PSRR LDO, 200 mA, Fixed 3.3, 1.8 V Output, 2 to 5.5 V Input, 6-pin WSON (DSE), -40 to 125 degC, Green (RoHS & no Sb/Br); Manufacturer: Texas Instruments; PartNumber: TLV7113318DDSET; Iout(Max)(A): 0.2; Iq(Typ)(mA): 0.03; SubFamily: Dual Channel LDO; Vdo(Typ)(mV): 150; Vin(Max)(V): 5.5; Vin(Min)(V): 2; DatasheetVersion: SBVS142A; PackageVersion: 4207810/A; PackageReference: DSE6; PackageDescription: 6-Pin Plastic Small Outline, Body 1.5 x 1.5 mm, Pitch 0.5 mm; Supplier 1: Digi-Key; Supplier Part Number 1: TLV7113318DDSET-ND; Supplier 2: Mouser; Supplier Part Number 2: 595-TLV7113318DDSET; Eco-Plan: Green (RoHS & no Sb/Br); Fixed Output Options(V): 3.3, 1.8; Mounting Technology: Surface Mount; ComponentLink1Description: Manufacturer URL; ComponentLink1URL: http://www.ti.com/; ComponentLink2Description: Datasheet; ComponentLink2URL: http://www.ti.com/general/docs/lit/getliterature.tsp?genericPartNumber=TLV7113318D&fileType=pdf; ComponentLink3Description: Package Specification; ComponentLink3URL: http://www.ti.com/litv/pdf/mpds287
footprint TI-DSE6_V (SON, 6-Leads, Body 1.5x1.5mm, Pitch 0.5mm)
pins: 1 EN1 (in) "Enable pin for regulator 1.Driving EN1 over 0.9V turns on regulator 1. Driving EN below0.4V puts regulator 1 into shutdown mode.", 2 IN (power) "Input pin. A small capacitor is needed from this pin to ground to assure stability. See Input and Output Capacitor Requirements in the Application Information section for more details.", 3 EN2 (in) "Enable pin for regulator 2.Driving EN2 over 0.9V turns on regulator 2. Driving EN2 below 0.4V puts regulator 2 into shutdown mode.", 4 GND (power) "Ground pin", 5 OUT2 (power) "Regulated output voltage pin. A small 1mF ceramic capacitor is needed from this pin to ground to assure stability. See Input and Output Capacitor Requirements in the Application Information section for more details.", 6 OUT1 (power) "Regulated output voltage pin. A small 1mF ceramic capacitor is needed from this pin to ground to assure stability. See Input and Output Capacitor Requirements in the Application Information section for more details."

## TLV7113330DDSER
designator U?
Dual Output High PSRR LDO, 200 mA, Fixed 3.3, 3.0 V Output, 2 to 5.5 V Input, 6-pin WSON (DSE), -40 to 125 degC, Green (RoHS & no Sb/Br); Manufacturer: Texas Instruments; PartNumber: TLV7113330DDSER; Iout(Max)(A): 0.2; SubFamily: Dual Channel LDO; Vdo(Typ)(mV): 150; Vin(Max)(V): 5.5; Vin(Min)(V): 2; DatasheetVersion: SBVS142A; PackageVersion: 4207810/A; PackageReference: DSE6; PackageDescription: 6-Pin Plastic Small Outline, Body 1.5 x 1.5 mm, Pitch 0.5 mm; Supplier 1: Digi-Key; Supplier Part Number 1: 296-30245-2-ND; Supplier 2: Digi-Key; Supplier Part Number 2: 296-30245-1-ND; Supplier 3: Digi-Key; Supplier Part Number 3: 296-30245-6-ND; Supplier 4: Farnell; Supplier Part Number 4: 2095840; Supplier 5: Mouser; Supplier Part Number 5: 595-TLV7113330DDSER; Eco-Plan: Green (RoHS & no Sb/Br); Fixed Output Options(V): 3.3, 3.0; Mounting Technology: Surface Mount; ComponentLink1Description: Manufacturer URL; ComponentLink1URL: http://www.ti.com/; ComponentLink2Description: Datasheet; ComponentLink2URL: http://www.ti.com/general/docs/lit/getliterature.tsp?genericPartNumber=TLV7113330D&fileType=pdf; ComponentLink3Description: Package Specification; ComponentLink3URL: http://www.ti.com/litv/pdf/mpds287
footprint TI-DSE6_V (SON, 6-Leads, Body 1.5x1.5mm, Pitch 0.5mm)
pins: 1 EN1 (in) "Enable pin for regulator 1.Driving EN1 over 0.9V turns on regulator 1. Driving EN below0.4V puts regulator 1 into shutdown mode.", 2 IN (power) "Input pin. A small capacitor is needed from this pin to ground to assure stability. See Input and Output Capacitor Requirements in the Application Information section for more details.", 3 EN2 (in) "Enable pin for regulator 2.Driving EN2 over 0.9V turns on regulator 2. Driving EN2 below 0.4V puts regulator 2 into shutdown mode.", 4 GND (power) "Ground pin", 5 OUT2 (power) "Regulated output voltage pin. A small 1mF ceramic capacitor is needed from this pin to ground to assure stability. See Input and Output Capacitor Requirements in the Application Information section for more details.", 6 OUT1 (power) "Regulated output voltage pin. A small 1mF ceramic capacitor is needed from this pin to ground to assure stability. See Input and Output Capacitor Requirements in the Application Information section for more details."